# EAGLE library part 403-51012-5X (library con-ept-one27)
ept One27 male right angled 12pins 1.27 mm pitch SMT Board-to-Board Connector System for parallel, horizontal and perpendicular PCB connections as well as cable-to-board connections. For mezzanine board-to-board connections from 8mm up to 13.8mm. Available with 12 to 80 pins. www.ept.de
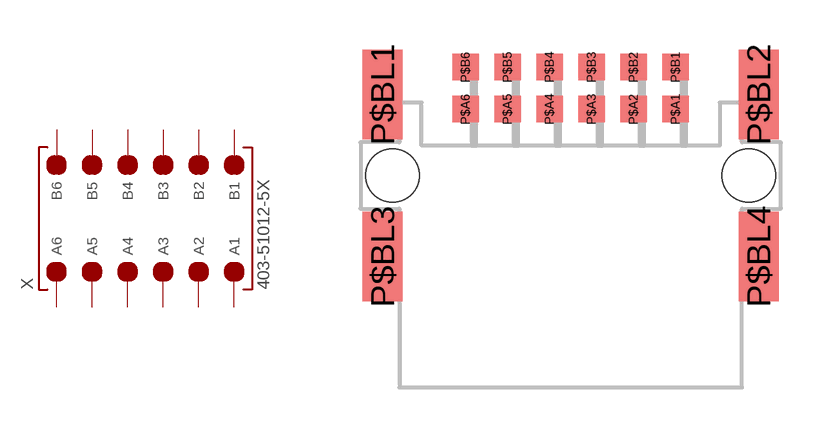
[diagram p9: symbol with the pads of 403-51012-5X; footprint 403-51012-5X]

Designator prefix X

## 403-51012-5X  [403-51012-5X]
P$A1  A1  pas
P$A2  A2  pas
P$A3  A3  pas
P$A4  A4  pas
P$A5  A5  pas
P$A6  A6  pas
P$B1  B1  pas
P$B2  B2  pas
P$B3  B3  pas
P$B4  B4  pas
P$B5  B5  pas
P$B6  B6  pas

## Footprint 403-51012-5X (pad centres in mm)
ept One27 male right angled 12pins 1.27 mm pitch SMT Board-to-Board Connector System for parallel, horizontal and perpendicular PCB connections as well as cable-to-board connections. For mezzanine board-to-board connections from 8mm up to 13.8mm. Available with 12 to 80 pins. www.ept.de
smd 0.8 x 0.8: P$A1 3.175,2; P$A2 1.905,2; P$A3 0.635,2; P$A4 -0.635,2; P$A5 -1.905,2; P$A6 -3.175,2; P$B1 3.175,3.27; P$B2 1.905,3.27; P$B3 0.635,3.27; P$B4 -0.635,3.27; P$B5 -1.905,3.27; P$B6 -3.175,3.27
smd 1.2 x 2.7: P$BL1 -5.685,2.45; P$BL2 5.685,2.45; P$BL3 -5.685,-2.45; P$BL4 5.685,-2.45
hole 1.6 at -5.385,0
hole 1.6 at 5.385,0